# EAGLE library part STM32F042K6T6 (library SamacSys_Parts)
32-Bit MCU 32K Flash 48MHz USB LQFP32 STMicroelectronics STM32F042K6T6, 32bit ARM Cortex M0 Microcontroller, 48MHz, 32 kB Flash, 32-Pin LQFP Source: Datasheet
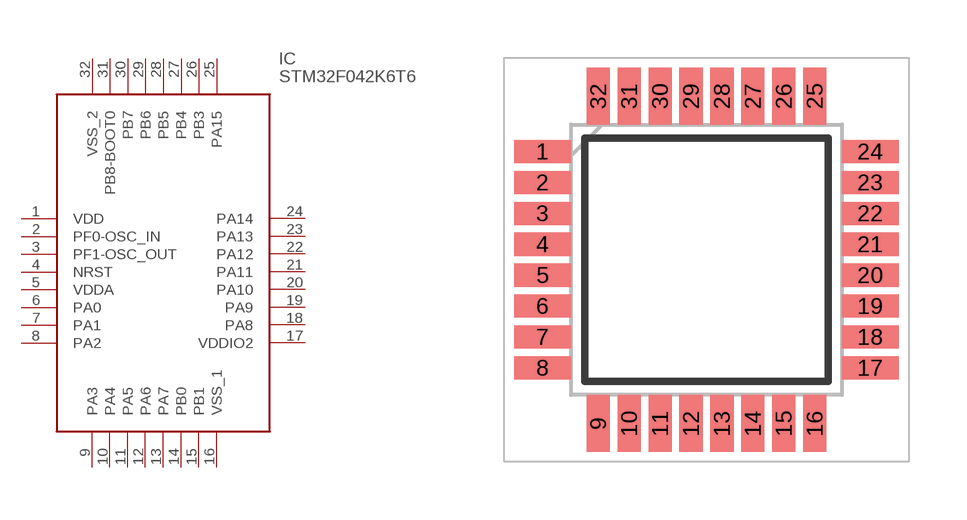
[diagram p0: symbol with the pads of QFP80P900X900X160-32N; footprint QFP80P900X900X160-32N]

Designator prefix IC

## STM32F042K6T6 (Description: 32-Bit MCU 32K Flash 48MHz USB LQFP32 STMicroelectronics STM32F042K6T6, 32bit ARM Cortex M0 Microcontroller, 48MHz, 32 kB Flash, 32-Pin LQFP; Height: 1.6mm; Manufacturer_Name: STMicroelectronics; Manufacturer_Part_Number: STM32F042K6T6; Mouser_Part_Number: 511-STM32F042K6T6; Mouser_Price-Stock: https://www.mouser.co.uk/ProductDetail/STMicroelectronics/STM32F042K6T6?qs=4b8myOmUP%252BsYBBEp2ZwbyQ%3D%3D)  [QFP80P900X900X160-32N]
1  VDD
2  PF0-OSC_IN
3  PF1-OSC_OUT
4  NRST
5  VDDA
6  PA0
7  PA1
8  PA2
9  PA3
10  PA4
11  PA5
12  PA6
13  PA7
14  PB0
15  PB1
16  VSS_1
17  VDDIO2
18  PA8
19  PA9
20  PA10
21  PA11
22  PA12
23  PA13
24  PA14
25  PA15
26  PB3
27  PB4
28  PB5
29  PB6
30  PB7
31  PB8-BOOT0
32  VSS_2

## Footprint QFP80P900X900X160-32N (pad centres in mm)
ST LQFP32
smd 1.475 x 0.6: 1 -4.238,2.8; 2 -4.238,2; 3 -4.238,1.2; 4 -4.238,0.4; 5 -4.238,-0.4; 6 -4.238,-1.2; 7 -4.238,-2; 8 -4.238,-2.8; 17 4.238,-2.8; 18 4.238,-2; 19 4.238,-1.2; 20 4.238,-0.4; 21 4.238,0.4; 22 4.238,1.2; 23 4.238,2; 24 4.238,2.8
smd 0.6 x 1.475: 9 -2.8,-4.238; 10 -2,-4.238; 11 -1.2,-4.238; 12 -0.4,-4.238; 13 0.4,-4.238; 14 1.2,-4.238; 15 2,-4.238; 16 2.8,-4.238; 25 2.8,4.238; 26 2,4.238; 27 1.2,4.238; 28 0.4,4.238; 29 -0.4,4.238; 30 -1.2,4.238; 31 -2,4.238; 32 -2.8,4.238